# EAGLE library part NRF52832-QFAA (library agsys-valvecontrol)
Nordic nRF52832 BLE SoC QFN48
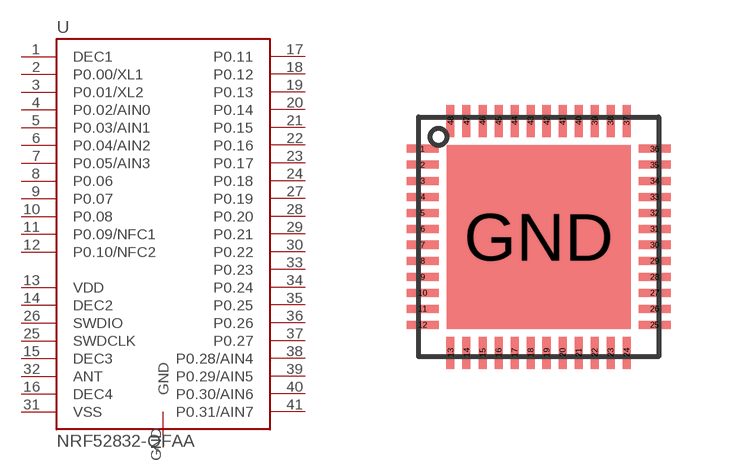
[diagram p0: symbol with the pads of QFN48-6X6; footprint QFN48-6X6]

Designator prefix U

## NRF52832-QFAA  [QFN48-6X6]
1  DEC1
2  P0.00/XL1
3  P0.01/XL2
4  P0.02/AIN0
5  P0.03/AIN1
6  P0.04/AIN2
7  P0.05/AIN3
8  P0.06
9  P0.07
10  P0.08
11  P0.09/NFC1
12  P0.10/NFC2
13  VDD  pwr
14  DEC2
15  DEC3
16  DEC4
17  P0.11
18  P0.12
19  P0.13
20  P0.14
21  P0.15
22  P0.16
23  P0.17
24  P0.18
25  SWDCLK
26  SWDIO
27  P0.19
28  P0.20
29  P0.21
30  P0.22
31  VSS  pwr
32  ANT
33  P0.23
34  P0.24
35  P0.25
36  P0.26
37  P0.27
38  P0.28/AIN4
39  P0.29/AIN5
40  P0.30/AIN6
41  P0.31/AIN7
GND  GND  pwr

## Footprint QFN48-6X6 (pad centres in mm)
QFN48 6x6mm 0.4mm pitch - nRF52832
smd 0.8 x 0.2: 1 -2.9,2.2; 2 -2.9,1.8; 3 -2.9,1.4; 4 -2.9,1; 5 -2.9,0.6; 6 -2.9,0.2; 7 -2.9,-0.2; 8 -2.9,-0.6; 9 -2.9,-1; 10 -2.9,-1.4; 11 -2.9,-1.8; 12 -2.9,-2.2; 25 2.9,-2.2; 26 2.9,-1.8; 27 2.9,-1.4; 28 2.9,-1; 29 2.9,-0.6; 30 2.9,-0.2; 31 2.9,0.2; 32 2.9,0.6; 33 2.9,1; 34 2.9,1.4; 35 2.9,1.8; 36 2.9,2.2
smd 0.2 x 0.8: 13 -2.2,-2.9; 14 -1.8,-2.9; 15 -1.4,-2.9; 16 -1,-2.9; 17 -0.6,-2.9; 18 -0.2,-2.9; 19 0.2,-2.9; 20 0.6,-2.9; 21 1,-2.9; 22 1.4,-2.9; 23 1.8,-2.9; 24 2.2,-2.9; 37 2.2,2.9; 38 1.8,2.9; 39 1.4,2.9; 40 1,2.9; 41 0.6,2.9; 42 0.2,2.9; 43 -0.2,2.9; 44 -0.6,2.9; 45 -1,2.9; 46 -1.4,2.9; 47 -1.8,2.9; 48 -2.2,2.9
smd 4.6 x 4.6: GND 0,0